# EAGLE library part PINHD-2X16 (library pinhead-fixdrills)
PIN HEADER
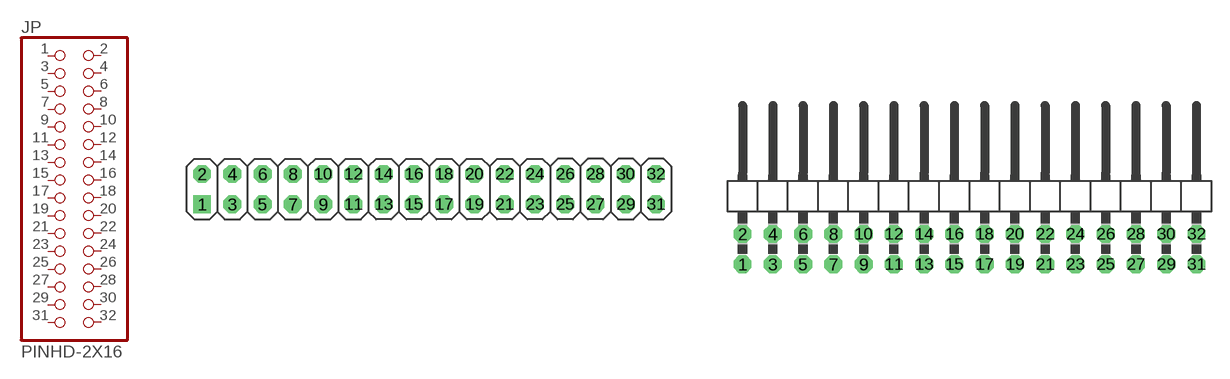
[diagram p13: symbol with the pads of 2X16; footprints 2X16, 2X16/90]

Designator prefix JP

## PINHD-2X16_2.54  [2X16]
1  1  pas
2  2  pas
3  3  pas
4  4  pas
5  5  pas
6  6  pas
7  7  pas
8  8  pas
9  9  pas
10  10  pas
11  11  pas
12  12  pas
13  13  pas
14  14  pas
15  15  pas
16  16  pas
17  17  pas
18  18  pas
19  19  pas
20  20  pas
21  21  pas
22  22  pas
23  23  pas
24  24  pas
25  25  pas
26  26  pas
27  27  pas
28  28  pas
29  29  pas
30  30  pas
31  31  pas
32  32  pas

## PINHD-2X16_2.54-90°  [2X16/90]
Pads as for 2X16

## PINHD-2X16_2.00  [2X16M]
Pads as for 2X16

## PINHD-2X16_2.54-SMD  [2X16SMD]
Pads as for 2X16

## PINHD-2X16_2.54-SMD-90°  [2X16SMD/90]
Pads as for 2X16

## Footprint 2X16 (pad centres in mm)
PIN HEADER - 2.54
drill 1 square: 1 -19.05,-1.27
drill 1 octagon: 2 -19.05,1.27; 3 -16.51,-1.27; 4 -16.51,1.27; 5 -13.97,-1.27; 6 -13.97,1.27; 7 -11.43,-1.27; 8 -11.43,1.27; 9 -8.89,-1.27; 10 -8.89,1.27; 11 -6.35,-1.27; 12 -6.35,1.27; 13 -3.81,-1.27; 14 -3.81,1.27; 15 -1.27,-1.27; 16 -1.27,1.27; 17 1.27,-1.27; 18 1.27,1.27; 19 3.81,-1.27; 20 3.81,1.27; 21 6.35,-1.27; 22 6.35,1.27; 23 8.89,-1.27; 24 8.89,1.27; 25 11.43,-1.27; 26 11.43,1.27; 27 13.97,-1.27; 28 13.97,1.27; 29 16.51,-1.27; 30 16.51,1.27; 31 19.05,-1.27; 32 19.05,1.27

## Footprint 2X16/90 (pad centres in mm)
PIN HEADER - 2.54 90°
drill 1 octagon: 1 -19.05,-6.35; 2 -19.05,-3.81; 3 -16.51,-6.35; 4 -16.51,-3.81; 5 -13.97,-6.35; 6 -13.97,-3.81; 7 -11.43,-6.35; 8 -11.43,-3.81; 9 -8.89,-6.35; 10 -8.89,-3.81; 11 -6.35,-6.35; 12 -6.35,-3.81; 13 -3.81,-6.35; 14 -3.81,-3.81; 15 -1.27,-6.35; 16 -1.27,-3.81; 17 1.27,-6.35; 18 1.27,-3.81; 19 3.81,-6.35; 20 3.81,-3.81; 21 6.35,-6.35; 22 6.35,-3.81; 23 8.89,-6.35; 24 8.89,-3.81; 25 11.43,-6.35; 26 11.43,-3.81; 27 13.97,-6.35; 28 13.97,-3.81; 29 16.51,-6.35; 30 16.51,-3.81; 31 19.05,-6.35; 32 19.05,-3.81

## Footprint 2X16M (pad centres in mm)
PIN HEADER - 2
drill 0.9 square: 1 -15,-1
drill 0.9: 2 -15,1; 3 -13,-1; 4 -13,1; 5 -11,-1; 6 -11,1; 7 -9,-1; 8 -9,1; 9 -7,-1; 10 -7,1; 11 -5,-1; 12 -5,1; 13 -3,-1; 14 -3,1; 15 -1,-1; 16 -1,1; 17 1,-1; 18 1,1; 19 3,-1; 20 3,1; 21 5,-1; 22 5,1; 23 7,-1; 24 7,1; 25 9,-1; 26 9,1; 27 11,-1; 28 11,1; 29 13,-1; 30 13,1; 31 15,-1; 32 15,1

## Footprint 2X16SMD (pad centres in mm)
PIN HEADER - 2.54 SMD
smd 1.016 x 3.302: 1 -1.27,-3.81; 2 -1.27,1.27; 3 1.27,-3.81; 4 1.27,1.27; 5 3.81,-3.81; 6 3.81,1.27; 7 6.35,-3.81; 8 6.35,1.27; 9 8.89,-3.81; 10 8.89,1.27; 11 11.43,-3.81; 12 11.43,1.27; 13 13.97,-3.81; 14 13.97,1.27; 15 16.51,-3.81; 16 16.51,1.27; 17 19.05,-3.81; 18 19.05,1.27; 19 21.59,-3.81; 20 21.59,1.27; 21 24.13,-3.81; 22 24.13,1.27; 23 26.67,-3.81; 24 26.67,1.27; 25 29.21,-3.81; 26 29.21,1.27; 27 31.75,-3.81; 28 31.75,1.27; 29 34.29,-3.81; 30 34.29,1.27; 31 36.83,-3.81; 32 36.83,1.27

## Footprint 2X16SMD/90 (pad centres in mm)
PIN HEADER - 2.54 90°
smd 1.016 x 1.778: 1 -1.27,-8.89; 2 -1.27,-5.08; 3 1.27,-8.89; 4 1.27,-5.08; 5 3.81,-8.89; 6 3.81,-5.08; 7 6.35,-8.89; 8 6.35,-5.08; 9 8.89,-8.89; 10 8.89,-5.08; 11 11.43,-8.89; 12 11.43,-5.08; 13 13.97,-8.89; 14 13.97,-5.08; 15 16.51,-8.89; 16 16.51,-5.08; 17 19.05,-8.89; 18 19.05,-5.08; 19 21.59,-8.89; 20 21.59,-5.08; 21 24.13,-8.89; 22 24.13,-5.08; 23 26.67,-8.89; 24 26.67,-5.08; 25 29.21,-8.89; 26 29.21,-5.08; 27 31.75,-8.89; 28 31.75,-5.08; 29 34.29,-8.89; 30 34.29,-5.08; 31 36.83,-8.89; 32 36.83,-5.08